# Altium footprint library D.PcbLib: 13 footprints
Each footprint in its own frame and in the unit in brackets; x right, y up, seen from the top. Pads: shape width x height; smd on the part's side, far side on the other; paste and mask are expansions set on the pad; w line width, h text height; cw(c..) or ccw(c..) is an arc to the next point about the centre after c.
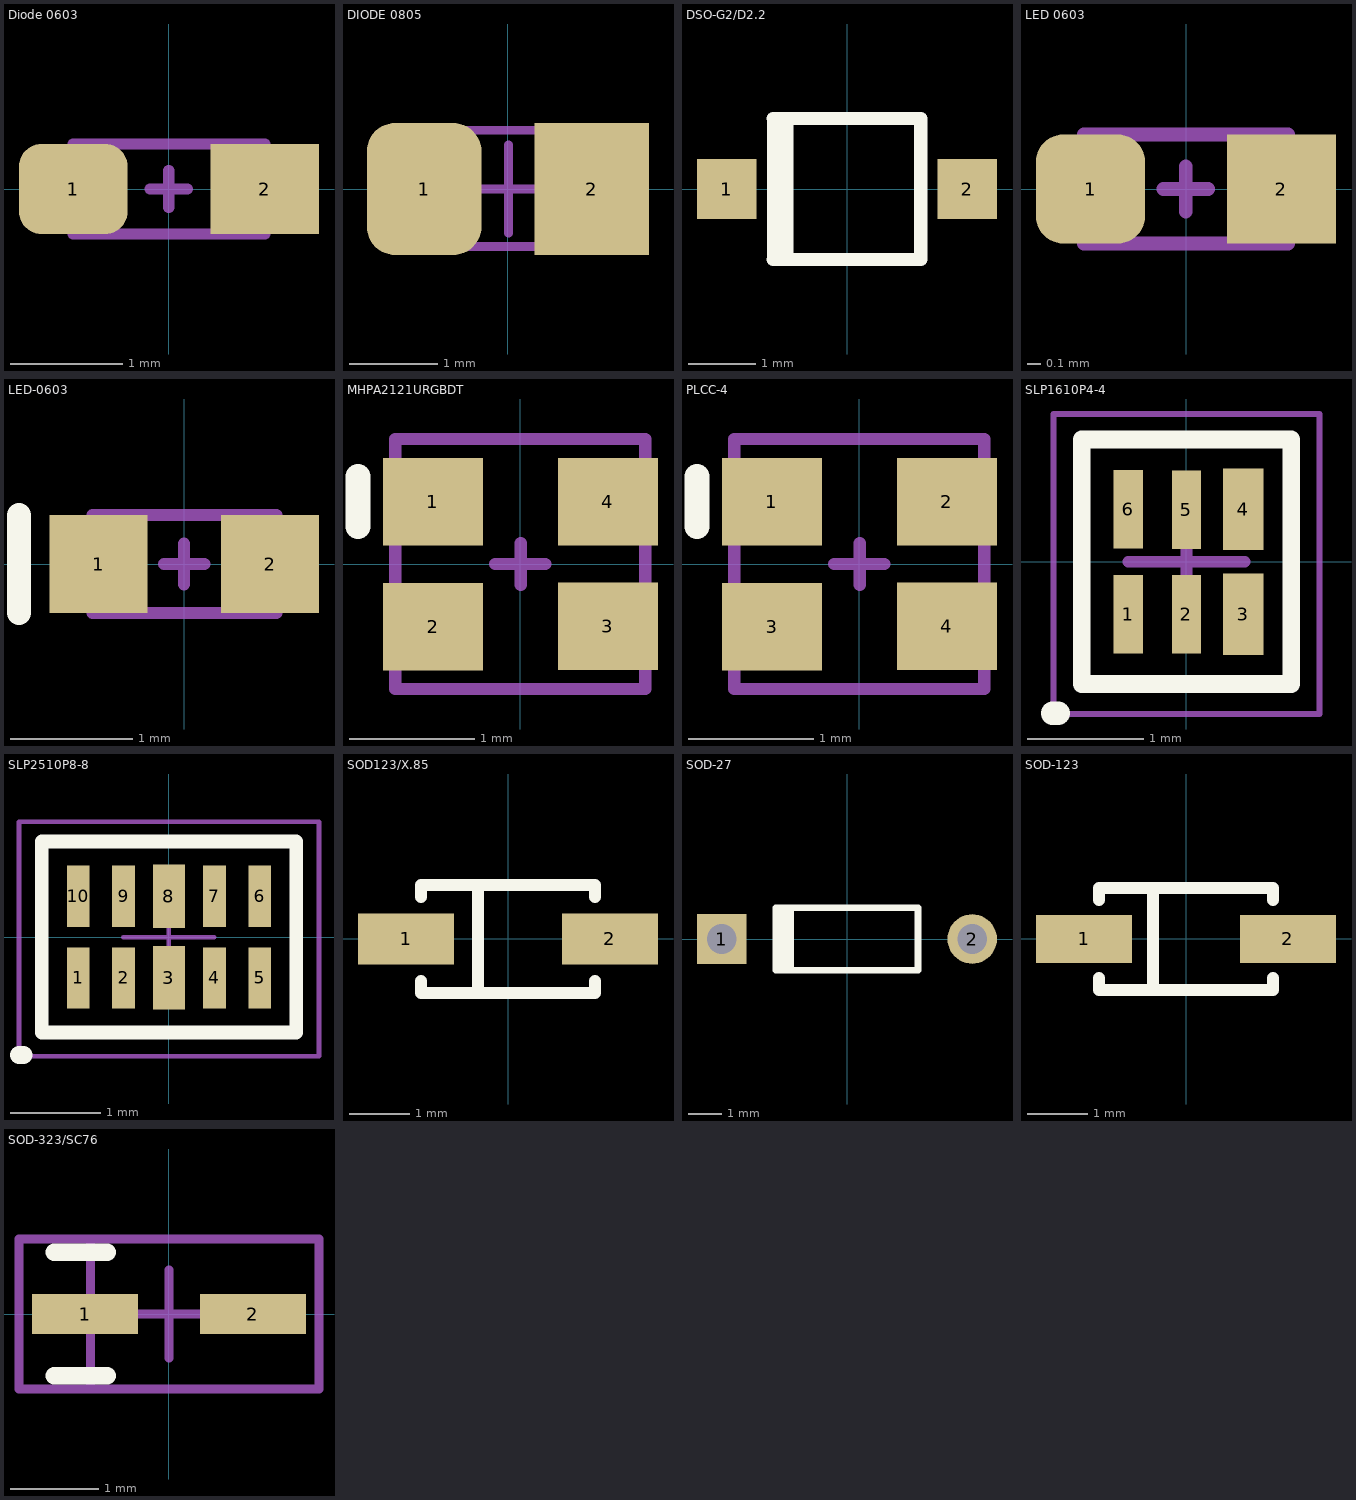
[diagram p0: the footprints below, top view; thin cyan lines are the x and y axes]

## Diode 0603 [mm] "Chip Diode; Body 1.6 x 0.8 mm (LxW typ)"
height 0.85
pads (2):
  rrect50% 0.965x0.8 smd: 1(-0.85,0)
  rect 0.965x0.8 smd: 2(0.85,0)
Mechanical 3:
  text ".Designator" at -1.5,0.65 h0.5
Mechanical 15:
  lines w0.1: -0.167,0 0.163,0 ; -0.002,-0.165 -0.002,0.165 ; -0.85,-0.4 0.85,-0.4 0.85,0.4 -0.85,0.4 -0.85,-0.4
3D body: height 0.3, standoff 0, extent -1.016,-0.381 -0.635,0.381
3D body: height 0.3, standoff 0, extent -0.635,-0.381 0.762,0.381
3D body: height 0.3, standoff 0, extent 0.635,-0.381 1.016,0.381

## DIODE 0805 [mm] "Chip Capacitor; Body 2.0 x 1.2 mm (LxW typ)"
height 1.1
pads (2):
  rrect50% 1.3x1.5 smd: 1(-0.95,0)
  rect 1.3x1.5 smd: 2(0.95,0)
Mechanical 3:
  text ".Designator" at -1.55,1 h0.5
Mechanical 15:
  lines w0.1: -0.495,0 0.505,0 ; 0.005,-0.5 0.005,0.5 ; -1.009,-0.65 -1.009,0.666 1.05,0.666 1.05,-0.65 -1.009,-0.65
3D body: height 1, standoff 0, extent -1.27,-0.635 -0.635,0.635
3D body: height 1, standoff 0, extent -0.643,-0.635 0.643,0.635
3D body: height 1, standoff 0, extent 0.635,-0.635 1.27,0.635

## DSO-G2/D2.2 [mm] "SM LED; 2 Gull Wing Leads; Body 2.2 x 2.1 mm, (LxW)"
height 2.2
pads (2):
  rect 0.89x0.89 smd: 1(-1.79,0) 2(1.79,0)
Top Overlay:
  lines w0.2: -1.1,-1.05 1.1,-1.05 1.1,1.05 -1.1,1.05 ; -1.095,-1.05 -1.095,1.05 ; -0.895,-1.05 -0.895,1.05

## LED 0603 [mm] "Chip Diode; Body 1.6 x 0.8 mm (LxW typ)"
height 0.85
pads (2):
  rrect50% 0.8x0.8 smd: 1(-0.7,0)
  rect 0.8x0.8 smd: 2(0.7,0)
Mechanical 3:
  text ".Designator" at -1.05,0.6 h0.5
Mechanical 15:
  lines w0.1: -0.167,0 0.163,0 ; -0.002,-0.165 -0.002,0.165 ; -0.75,-0.4 -0.75,0.4 0.75,0.4 0.75,-0.4 -0.75,-0.4
3D body "0603 LED v7.step": height 0.35, standoff 0, extent -0.8,-0.4 0.8,0.4

## LED-0603 [mm] "Chip Diode; Body 1.6 x 0.8 mm (LxW typ)"
height 0.85
pads (2):
  rect 0.8x0.8 smd: 1(-0.7,0) 2(0.7,0)
Top Overlay:
  lines w0.2: -1.35,-0.4 -1.35,0.4
Mechanical 3:
  text ".Designator" at -1.05,0.6 h0.5
Mechanical 15:
  lines w0.1: -0.167,0 0.163,0 ; -0.002,-0.165 -0.002,0.165 ; -0.75,-0.4 -0.75,0.4 0.75,0.4 0.75,-0.4 -0.75,-0.4
3D body "0603 LED v7.step": height 0.35, standoff 0, extent -0.8,-0.4 0.8,0.4

## MHPA2121URGBDT [mm] "CLMVC-FKC  LED"
height 0.95
pads (4):
  rect 0.8x0.7 smd: 1(-0.7,0.5) 2(-0.7,-0.5) 3(0.7,-0.5) 4(0.7,0.5)
Top Overlay:
  lines w0.2: -1.3,0.3 -1.3,0.7
Mechanical 3:
  text ".Designator" at -1,1.15 h0.5
Mechanical 15:
  lines w0.1: -0.2,0 0.2,0 ; 0.002,-0.165 0.002,0.165 ; -1,-1 -1,1 1,1 1,-1 -1,-1
3D body "CLMVC-FKC.step": height 0.9, standoff 0, extent -1,-1 1,1

## PLCC-4 [mm] "CLMVC-FKC  LED"
height 0.95
pads (4):
  rect 0.8x0.7 smd: 1(-0.7,0.5) 2(0.7,0.5) 3(-0.7,-0.5) 4(0.7,-0.5)
Top Overlay:
  lines w0.2: -1.3,0.3 -1.3,0.7
Mechanical 3:
  text ".Designator" at -0.95,1.2 h0.5
Mechanical 15:
  lines w0.1: -0.2,0 0.2,0 ; 0.002,-0.165 0.002,0.165 ; -1,-1 1,-1 1,1 -1,1 -1,-1
3D body "CLMVC-FKC.step": height 0.9, standoff 0, extent -1,-1 1,1

## SLP1610P4-4 [mm]
pads (6):
  rect 0.25x0.675 smd: 1(-0.5,-0.45) 2(0,-0.451) 5(0,0.449) 6(-0.5,0.45)
  rect 0.35x0.7 smd: 3(0.489,-0.449) 4(0.489,0.451)
Top Overlay:
  lines w0.152: -0.9,-1.05 0.9,-1.05 0.9,1.05 -0.9,1.05 -0.9,-1.05
  lines w0.2: -1.15,-1.3 -1.1,-1.3
Mechanical 3:
  text ".Designator" at 0,1.524 h0.5
Mechanical 15:
  lines w0.05: -1.143,-1.307 -1.143,1.27 1.143,1.27 1.143,-1.307 -1.143,-1.307
  lines w0.1: -0.499,0 0.501,0 ; 0.001,-0.5 0.001,0.5
3D body: height 0.3, standoff 0, extent -0.864,-0.991 0.838,0.991

## SLP2510P8-8 [mm]
pads (10):
  rect 0.25x0.675 smd: 1(-1,-0.45) 2(-0.5,-0.45) 4(0.5,-0.45) 5(1,-0.45) 6(1,0.45) 7(0.5,0.45) 9(-0.5,0.45) 10(-1,0.45)
  rect 0.35x0.7 smd: 3(0,-0.45) 8(0,0.45)
Top Overlay:
  lines w0.152: -1.4,-1.05 1.4,-1.05 1.4,1.05 -1.4,1.05 -1.4,-1.05
  lines w0.2: -1.65,-1.3 -1.6,-1.3
Mechanical 3:
  text ".Designator" at 0,1.524 h0.5
Mechanical 15:
  lines w0.05: -0.503,0 0.497,0 ; -0.003,-0.5 -0.003,0.5 ; -1.651,-1.31 1.651,-1.31 1.651,1.267 -1.651,1.267 -1.651,-1.31
3D body: height 0.3, standoff 0, extent -1.397,-0.991 1.372,0.991

## SOD123/X.85 [mm] "SOD-123; 2 Leads; Body 2.7 x 1.6 mm, (LxW)"
height 1.35
pads (2):
  rect 1.6x0.85 smd: 1(-1.7,0) 2(1.7,0)
Top Overlay:
  lines w0.2: -1.45,-0.7 -1.45,-0.9 1.45,-0.9 1.45,-0.7 ; -1.45,0.7 -1.45,0.9 1.45,0.9 1.45,0.7 ; -0.5,-0.9 -0.5,0.9

## SOD-27 [mm] "Diode, Axial; Body 4.3 x 1.9 mm (LxDia. max), Lead Dia. 0.56 mm (max)"
height 1.9
pads (2):
  rect 1.5x1.5 hole 0.9: 1(-3.79,0)
  round 1.5 hole 0.9: 2(3.79,0)
Top Overlay:
  region: -1.6,0.95 -2.25,0.95 -2.25,-0.95 -1.6,-0.95
  lines w0.2: -2.15,-0.95 2.15,-0.95 2.15,0.95 -2.15,0.95

## SOD-123 [mm] "SOD-123; 2 Leads; Body 2.7 x 1.6 mm, (LxW)"
height 1.35
pads (2):
  rect 1.6x0.8 smd: 1(-1.7,0) 2(1.7,0)
Top Overlay:
  lines w0.2: -1.45,-0.65 -1.45,-0.85 1.45,-0.85 1.45,-0.65 ; -1.45,0.65 -1.45,0.85 1.45,0.85 1.45,0.65 ; -0.55,-0.85 -0.55,0.85
3D body "DO-215AD.stp": height 1.35, standoff 0, extent -1.925,-0.85 1.925,0.85

## SOD-323/SC76 [mm]
pads (2):
  rect 1.2x0.45 smd: 1(-0.95,0) 2(0.95,0)
Top Overlay:
  lines w0.2: -1.3,-0.7 -0.7,-0.7 ; -1.3,0.7 -0.7,0.7
Mechanical 3:
  text ".designator" at -1.65,1.05 h0.5
Mechanical 15:
  lines w0.1: -0.889,-0.85 -0.889,0.85 ; -0.5,0 0.5,0 ; 0,-0.5 0,0.5 ; -1.7,-0.85 1.7,-0.85 1.7,0.85 -1.7,0.85 -1.7,-0.85
3D body "SOD-323.STEP": height 1.08, standoff -0.07, extent -1.43,-0.738 1.43,0.762